# Altium footprint library CJ_Component.PcbLib: 5 footprints
Each footprint in its own frame and in the unit in brackets; x right, y up, seen from the top. Pads: shape width x height; smd on the part's side, far side on the other; paste and mask are expansions set on the pad; w line width, h text height; cw(c..) or ccw(c..) is an arc to the next point about the centre after c.
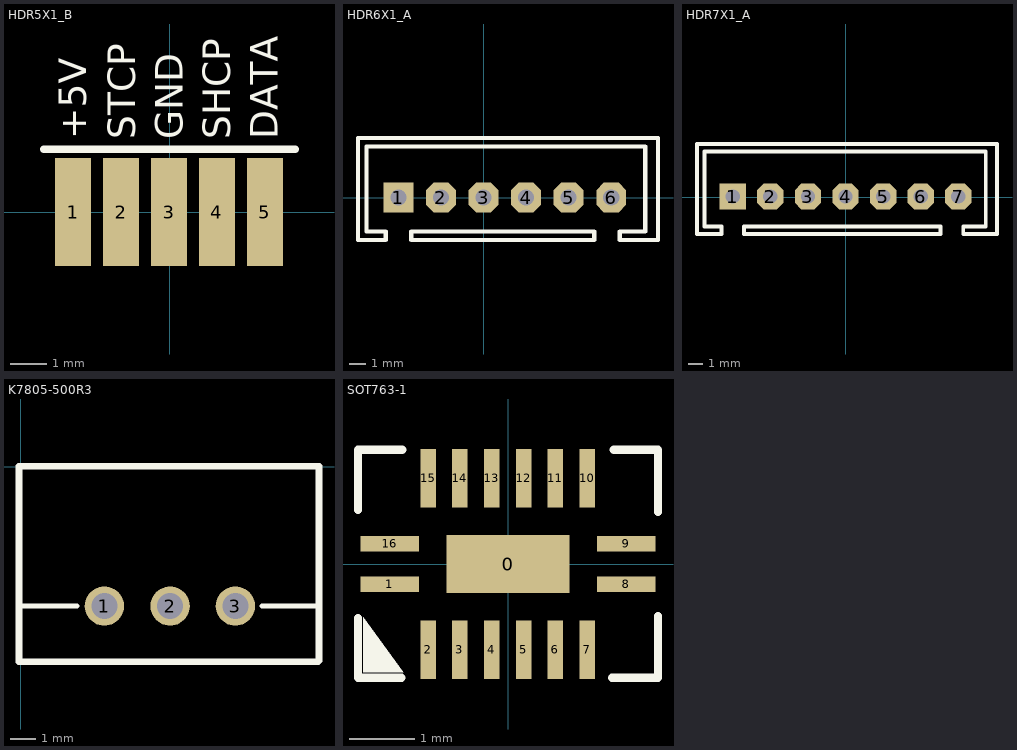
[diagram p0: the footprints below, top view; thin cyan lines are the x and y axes]

## HDR5X1_B [mm]
pads (5):
  rect 1x3 smd: 1(-2.68,0) 2(-1.35,0) 3(-0.02,0) 4(1.31,0) 5(2.64,0)
Top Overlay:
  lines w0.203: -3.5,1.74 3.48,1.74
  text "DATA" at 3,2.02 h0.76
  text "SHCP" at 1.68,2.02 h0.76
  text "GND" at 0.36,2.02 h0.76
  text "STCP" at -0.96,2.02 h0.76
  text "+5V" at -2.32,2.02 h0.76

## HDR6X1_A [mil]
pads (6):
  rect 70x70 hole 38: 1(-200,0)
  oct 70x70 hole 38: 2(-100,0) 3(0,0) 4(100,0) 5(200,0) 6(300,0)
Top Overlay:
  lines w10: -295,-100 -295,140 410,140 410,-100 320,-100 320,-80 380,-80 380,120 -275,120 -275,-80 -230,-80 -230,-100 -295,-100 ; -170,-100 260,-100 260,-80 -170,-80 -170,-100

## HDR7X1_A [mil] "Connector; Header; 4 Position"
height 62.99
pads (7):
  rect 70x70 hole 38: 1(-300,1.57)
  oct 70x70 hole 38: 2(-200,1.57) 3(-100,1.57) 4(0,1.57) 5(100,1.57) 6(200,1.57) 7(300,1.57)
Top Overlay:
  lines w10: -395,-98.43 -330,-98.43 -330,-78.43 -375,-78.43 -375,121.57 372.83,121.57 372.83,-78.43 312.83,-78.43 312.83,-98.43 402.83,-98.43 402.83,141.57 -395,141.57 -395,-98.43 ; -270,-98.43 -270,-78.43 252.83,-78.43 252.83,-98.43 -270,-98.43

## K7805-500R3 [mil]
pads (3):
  round 60 hole 39.37: 1(127.64,-211.81) 2(227.64,-211.81) 3(327.04,-211.81)
Top Overlay:
  lines w8: -1.76,-211.81 85.64,-211.81 ; 367.64,-211.81 453.73,-211.81 ; 453.27,-296.46 454.33,-295.39
  lines w10: 453.27,-296.46 -2.36,-296.46 -2.36,0.79 454.33,0.79 454.33,-295.39
3D body: height 150, standoff 2, extent -2.38,-296.48 454.35,0.81

## SOT763-1 [mm]
pads (17):
  rect 1.9x0.9 smd: 0(0,0)
  rect 0.9x0.24 smd: 1(-1.82,-0.31) 8(1.82,-0.31) 9(1.82,0.31) 16(-1.82,0.31)
  rect 0.24x0.9 smd: 2(-1.23,-1.32) 3(-0.74,-1.32) 4(-0.25,-1.32) 5(0.24,-1.32) 6(0.73,-1.32) 7(1.22,-1.32) 10(1.22,1.32) 11(0.73,1.32) 12(0.24,1.32) 13(-0.25,1.32) 14(-0.74,1.32) 15(-1.23,1.32)
Top Overlay:
  region: -1.612,-1.667 -2.227,-1.667 -2.228,-0.822
  lines w0.127: -2.31,-0.83 -2.31,-1.47 -2.31,-1.74 -2.31,-1.75 -1.64,-1.75 ; -2.31,0.83 -2.31,1.76 -1.63,1.76 ; 1.6,-1.75 2.05,-1.75 2.31,-1.75 2.31,-1.69 2.31,-0.8 ; 1.63,1.76 2.31,1.76 2.31,0.8
3D body: height 0.51, standoff 0.05, extent -2.09,-1.56 2.09,1.56